# Altium schematic symbol library CAP - Surface Mount Ceramic Capacitors 0603.SchLib: 20 symbols
Pins are listed as number, name and electrical type; pins without a type are passive.

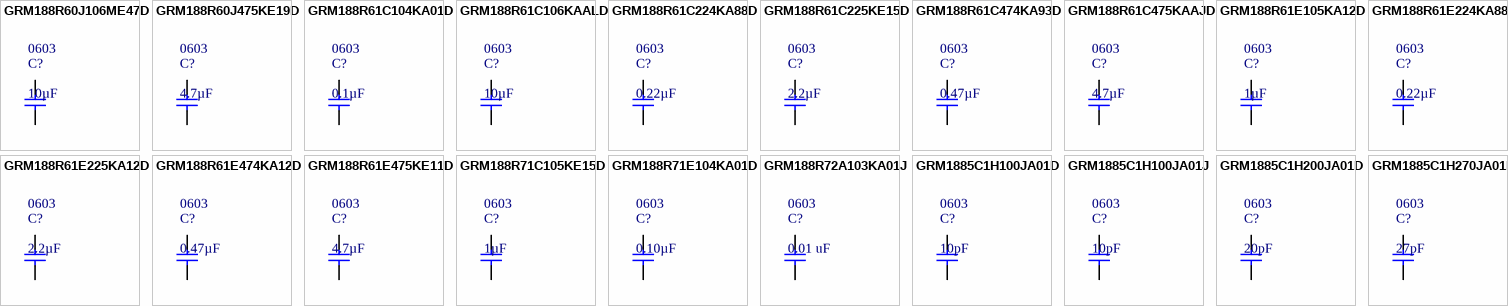
[diagram p0: symbols GRM188R60J106ME47D to GRM1885C1H270JA01D]

## GRM188R60J106ME47D
designator C?, comment 10µF  Package: 0603
CAP CER 10UF 6.3V X5R 0603; Manufacturer: Murata Electronics North America; Manufacturer Part Number: GRM188R60J106ME47D; Tolerance: ±20%; Supplier 1: Digi-Key; Supplier Part Number 1: 490-3896-1-ND; RoHS: RoHS Compliant; Category: Capacitors; Stock 1: 1718576; Pricing 1: 1=0.15, 10=0.105, 50=0.0604, 100=0.0499, 250=0.042, 500=0.03518, 1000=0.02888 (USD); Packaging: Cut Tape (CT); Part Status: Active; Capacitance: 10µF; Voltage - Rated: 6.3V; Temperature Coefficient: X5R; Operating Temperature: -55°C ~ 85°C; Features: -; Ratings: -; Applications: General Purpose; Mounting Type: Surface Mount, MLCC; Size / Dimension: 0.063" L x 0.031" W (1.60mm x 0.80mm); Height - Seated (Max): -; Thickness (Max): 0.035" (0.90mm); Lead Spacing: -; Lead Style: -; ComponentLink1URL: http://www.murata.com/~/media/webrenewal/support/library/catalog/products/capacitor/mlcc/c02e.pdf; ComponentLink1Description: http://www.murata.com/~/media/webrenewal/support/library/catalog/products/capacitor/mlcc/c02e.pdf
footprint C 0603 (Chip Capacitor, 2-Leads, Body 1.6x0.8mm, IPC Medium Density)
pins: 1, 2

## GRM188R60J475KE19D
designator C?, comment 4.7µF  Package: 0603
CAP CER 4.7UF 6.3V X5R 0603; Manufacturer: Murata Electronics North America; Manufacturer Part Number: GRM188R60J475KE19D; Tolerance: ±10%; Supplier 1: Digi-Key; Supplier Part Number 1: 490-3297-1-ND; RoHS: RoHS Compliant; Category: Capacitors; Stock 1: 611486; Pricing 1: 1=0.11, 10=0.078, 50=0.0422, 100=0.0358, 250=0.02924, 500=0.02502, 1000=0.0195 (USD); Packaging: Cut Tape (CT); Part Status: Active; Capacitance: 4.7µF; Voltage - Rated: 6.3V; Temperature Coefficient: X5R; Operating Temperature: -55°C ~ 85°C; Features: -; Ratings: -; Applications: General Purpose; Mounting Type: Surface Mount, MLCC; Size / Dimension: 0.063" L x 0.031" W (1.60mm x 0.80mm); Height - Seated (Max): -; Thickness (Max): 0.035" (0.90mm); Lead Spacing: -; Lead Style: -; ComponentLink1URL: http://www.murata.com/~/media/webrenewal/support/library/catalog/products/capacitor/mlcc/c02e.pdf; ComponentLink1Description: http://www.murata.com/~/media/webrenewal/support/library/catalog/products/capacitor/mlcc/c02e.pdf
footprint C 0603 (Chip Capacitor, 2-Leads, Body 1.6x0.8mm, IPC Medium Density)
pins: 1, 2

## GRM188R61C104KA01D
designator C?, comment 0.1µF  Package: 0603
CAP CER 0.1UF 16V X5R 0603; Manufacturer: Murata Electronics North America; Manufacturer Part Number: GRM188R61C104KA01D; Tolerance: ±10%; Supplier 1: Digi-Key; Supplier Part Number 1: 490-9653-1-ND; RoHS: RoHS Compliant; Category: Capacitors; Stock 1: 310560; Pricing 1: 1=0.1, 10=0.048, 25=0.0348, 50=0.026, 100=0.0213, 250=0.01784, 500=0.01522, 1000=0.01195 (USD); Packaging: Cut Tape (CT); Part Status: Active; Capacitance: 0.1µF; Voltage - Rated: 16V; Temperature Coefficient: X5R; Operating Temperature: -55°C ~ 85°C; Features: -; Ratings: -; Applications: General Purpose; Mounting Type: Surface Mount, MLCC; Size / Dimension: 0.063" L x 0.031" W (1.60mm x 0.80mm); Height - Seated (Max): -; Thickness (Max): 0.035" (0.90mm); Lead Spacing: -; Lead Style: -; ComponentLink1URL: http://www.murata.com/~/media/webrenewal/support/library/catalog/products/capacitor/mlcc/c02e.ashx; ComponentLink1Description: http://www.murata.com/~/media/webrenewal/support/library/catalog/products/capacitor/mlcc/c02e.ashx
footprint C 0603 (Chip Capacitor, 2-Leads, Body 1.6x0.8mm, IPC Medium Density)
pins: 1, 2

## GRM188R61C106KAALD
designator C?, comment 10µF  Package: 0603
CAP CER 10UF 16V X5R 0603; Manufacturer: Murata Electronics North America; Manufacturer Part Number: GRM188R61C106KAALD; Tolerance: ±10%; Supplier 1: Digi-Key; Supplier Part Number 1: 490-10728-1-ND; RoHS: RoHS Compliant; Category: Capacitors; Stock 1: 110990; Pricing 1: 1=0.37, 10=0.254, 25=0.208, 50=0.1776, 100=0.1521, 250=0.1268, 500=0.1141, 1000=0.09636 (USD); Packaging: Cut Tape (CT); Part Status: Active; Capacitance: 10µF; Voltage - Rated: 16V; Temperature Coefficient: X5R; Operating Temperature: -55°C ~ 85°C; Features: -; Ratings: -; Applications: General Purpose; Mounting Type: Surface Mount, MLCC; Size / Dimension: 0.063" L x 0.031" W (1.60mm x 0.80mm); Height - Seated (Max): -; Thickness (Max): 0.037" (0.95mm); Lead Spacing: -; Lead Style: -; ComponentLink1URL: http://www.murata.com/~/media/webrenewal/support/library/catalog/products/capacitor/mlcc/c02e.ashx; ComponentLink1Description: http://www.murata.com/~/media/webrenewal/support/library/catalog/products/capacitor/mlcc/c02e.ashx
footprint C 0603 (Chip Capacitor, 2-Leads, Body 1.6x0.8mm, IPC Medium Density)
pins: 1, 2

## GRM188R61C224KA88D
designator C?, comment 0.22µF  Package: 0603
CAP CER 0.22UF 16V X5R 0603; Manufacturer: Murata Electronics North America; Manufacturer Part Number: GRM188R61C224KA88D; Tolerance: ±10%; Supplier 1: Digi-Key; Supplier Part Number 1: 490-11500-1-ND; RoHS: RoHS Compliant; Category: Capacitors; Stock 1: 538; Pricing 1: 1=0.18, 10=0.126, 25=0.0924, 50=0.0756, 100=0.0638, 250=0.05204, 500=0.04366, 1000=0.03862 (USD); Packaging: Cut Tape (CT); Part Status: Active; Capacitance: 0.22µF; Voltage - Rated: 16V; Temperature Coefficient: X5R; Operating Temperature: -55°C ~ 85°C; Features: -; Ratings: -; Applications: General Purpose; Mounting Type: Surface Mount, MLCC; Size / Dimension: 0.063" L x 0.031" W (1.60mm x 0.80mm); Height - Seated (Max): -; Thickness (Max): 0.035" (0.90mm); Lead Spacing: -; Lead Style: -; ComponentLink1URL: http://www.murata.com/~/media/webrenewal/support/library/catalog/products/capacitor/mlcc/c02e.ashx; ComponentLink1Description: http://www.murata.com/~/media/webrenewal/support/library/catalog/products/capacitor/mlcc/c02e.ashx
footprint C 0603 (Chip Capacitor, 2-Leads, Body 1.6x0.8mm, IPC Medium Density)
pins: 1, 2

## GRM188R61C225KE15D
designator C?, comment 2.2µF  Package: 0603
CAP CER 2.2UF 16V X5R 0603; Manufacturer: Murata Electronics North America; Manufacturer Part Number: GRM188R61C225KE15D; Tolerance: ±10%; Supplier 1: Digi-Key; Supplier Part Number 1: 490-3296-1-ND; RoHS: RoHS Compliant; Category: Capacitors; Stock 1: 1546354; Pricing 1: 1=0.13, 10=0.089, 25=0.0652, 50=0.0508, 100=0.042, 250=0.03476, 500=0.02946, 1000=0.02439 (USD); Packaging: Cut Tape (CT); Part Status: Active; Capacitance: 2.2µF; Voltage - Rated: 16V; Temperature Coefficient: X5R; Operating Temperature: -55°C ~ 85°C; Features: -; Ratings: -; Applications: General Purpose; Mounting Type: Surface Mount, MLCC; Size / Dimension: 0.063" L x 0.031" W (1.60mm x 0.80mm); Height - Seated (Max): -; Thickness (Max): 0.035" (0.90mm); Lead Spacing: -; Lead Style: -; ComponentLink1URL: http://www.murata.com/~/media/webrenewal/support/library/catalog/products/capacitor/mlcc/c02e.ashx; ComponentLink1Description: http://www.murata.com/~/media/webrenewal/support/library/catalog/products/capacitor/mlcc/c02e.ashx
footprint C 0603 (Chip Capacitor, 2-Leads, Body 1.6x0.8mm, IPC Medium Density)
pins: 1, 2

## GRM188R61C474KA93D
designator C?, comment 0.47µF  Package: 0603
CAP CER 0.47UF 16V X5R 0603; Manufacturer: Murata Electronics North America; Manufacturer Part Number: GRM188R61C474KA93D; Tolerance: ±10%; Supplier 1: Digi-Key; Supplier Part Number 1: 490-11501-1-ND; RoHS: RoHS Compliant; Category: Capacitors; Stock 1: 6697; Pricing 1: 1=0.19, 10=0.131, 25=0.0964, 50=0.0788, 100=0.0666, 250=0.05428, 500=0.04554, 1000=0.04028 (USD); Packaging: Cut Tape (CT); Part Status: Active; Capacitance: 0.47µF; Voltage - Rated: 16V; Temperature Coefficient: X5R; Operating Temperature: -55°C ~ 85°C; Features: -; Ratings: -; Applications: General Purpose; Mounting Type: Surface Mount, MLCC; Size / Dimension: 0.063" L x 0.031" W (1.60mm x 0.80mm); Height - Seated (Max): -; Thickness (Max): 0.035" (0.90mm); Lead Spacing: -; Lead Style: -; ComponentLink1URL: http://www.murata.com/~/media/webrenewal/support/library/catalog/products/capacitor/mlcc/c02e.ashx; ComponentLink1Description: http://www.murata.com/~/media/webrenewal/support/library/catalog/products/capacitor/mlcc/c02e.ashx
footprint C 0603 (Chip Capacitor, 2-Leads, Body 1.6x0.8mm, IPC Medium Density)
pins: 1, 2

## GRM188R61C475KAAJD
designator C?, comment 4.7µF  Package: 0603
CAP CER 4.7UF 16V X5R 0603; Manufacturer: Murata Electronics North America; Manufacturer Part Number: GRM188R61C475KAAJD; Tolerance: ±10%; Supplier 1: Digi-Key; Supplier Part Number 1: 490-10481-1-ND; RoHS: RoHS Compliant; Category: Capacitors; Stock 1: 167381; Pricing 1: 1=0.33, 10=0.227, 25=0.182, 50=0.1516, 100=0.1289, 250=0.10236, 500=0.091, 1000=0.07962 (USD); Packaging: Cut Tape (CT); Part Status: Active; Capacitance: 4.7µF; Voltage - Rated: 16V; Temperature Coefficient: X5R; Operating Temperature: -55°C ~ 85°C; Features: Derating Recommended; Ratings: -; Applications: General Purpose; Mounting Type: Surface Mount, MLCC; Size / Dimension: 0.063" L x 0.031" W (1.60mm x 0.80mm); Height - Seated (Max): -; Thickness (Max): 0.037" (0.95mm); Lead Spacing: -; Lead Style: -; ComponentLink1URL: http://www.murata.com/~/media/webrenewal/support/library/catalog/products/capacitor/mlcc/c02e.ashx; ComponentLink1Description: http://www.murata.com/~/media/webrenewal/support/library/catalog/products/capacitor/mlcc/c02e.ashx
footprint C 0603 (Chip Capacitor, 2-Leads, Body 1.6x0.8mm, IPC Medium Density)
pins: 1, 2

## GRM188R61E105KA12D
designator C?, comment 1µF  Package: 0603
CAP CER 1UF 25V X5R 0603; Manufacturer: Murata Electronics North America; Manufacturer Part Number: GRM188R61E105KA12D; Tolerance: ±10%; Supplier 1: Digi-Key; Supplier Part Number 1: 490-3897-1-ND; RoHS: RoHS Compliant; Category: Capacitors; Stock 1: 3125603; Pricing 1: 1=0.1, 10=0.04, 25=0.0288, 50=0.0218, 100=0.0178, 250=0.01484, 500=0.01268, 1000=0.00996 (USD); Packaging: Cut Tape (CT); Part Status: Active; Capacitance: 1µF; Voltage - Rated: 25V; Temperature Coefficient: X5R; Operating Temperature: -55°C ~ 85°C; Features: -; Ratings: -; Applications: General Purpose; Mounting Type: Surface Mount, MLCC; Size / Dimension: 0.063" L x 0.031" W (1.60mm x 0.80mm); Height - Seated (Max): -; Thickness (Max): 0.035" (0.90mm); Lead Spacing: -; Lead Style: -; ComponentLink1URL: http://www.murata.com/~/media/webrenewal/support/library/catalog/products/capacitor/mlcc/c02e.ashx; ComponentLink1Description: http://www.murata.com/~/media/webrenewal/support/library/catalog/products/capacitor/mlcc/c02e.ashx
footprint C 0603 (Chip Capacitor, 2-Leads, Body 1.6x0.8mm, IPC Medium Density)
pins: 1, 2

## GRM188R61E224KA88D
designator C?, comment 0.22µF  Package: 0603
CAP CER 0.22UF 25V X5R 0603; Manufacturer: Murata Electronics North America; Manufacturer Part Number: GRM188R61E224KA88D; Tolerance: ±10%; Supplier 1: Digi-Key; Supplier Part Number 1: 490-11502-1-ND; RoHS: RoHS Compliant; Category: Capacitors; Stock 1: 3706; Pricing 1: 1=0.18, 10=0.126, 25=0.0924, 50=0.0756, 100=0.0638, 250=0.05204, 500=0.04366, 1000=0.03862 (USD); Packaging: Cut Tape (CT); Part Status: Active; Capacitance: 0.22µF; Voltage - Rated: 25V; Temperature Coefficient: X5R; Operating Temperature: -55°C ~ 85°C; Features: -; Ratings: -; Applications: General Purpose; Mounting Type: Surface Mount, MLCC; Size / Dimension: 0.063" L x 0.031" W (1.60mm x 0.80mm); Height - Seated (Max): -; Thickness (Max): 0.035" (0.90mm); Lead Spacing: -; Lead Style: -; ComponentLink1URL: http://www.murata.com/~/media/webrenewal/support/library/catalog/products/capacitor/mlcc/c02e.ashx; ComponentLink1Description: http://www.murata.com/~/media/webrenewal/support/library/catalog/products/capacitor/mlcc/c02e.ashx
footprint C 0603 (Chip Capacitor, 2-Leads, Body 1.6x0.8mm, IPC Medium Density)
pins: 1, 2

## GRM188R61E225KA12D
designator C?, comment 2.2µF  Package: 0603
CAP CER 2.2UF 25V X5R 0603; Manufacturer: Murata Electronics North America; Manufacturer Part Number: GRM188R61E225KA12D; Tolerance: ±10%; Supplier 1: Digi-Key; Supplier Part Number 1: 490-10731-1-ND; RoHS: RoHS Compliant; Category: Capacitors; Stock 1: 174226; Pricing 1: 1=0.15, 10=0.109, 25=0.08, 50=0.0622, 100=0.0515, 250=0.0426, 500=0.0361, 1000=0.02988 (USD); Packaging: Cut Tape (CT); Part Status: Active; Capacitance: 2.2µF; Voltage - Rated: 25V; Temperature Coefficient: X5R; Operating Temperature: -55°C ~ 85°C; Features: -; Ratings: -; Applications: General Purpose; Mounting Type: Surface Mount, MLCC; Size / Dimension: 0.063" L x 0.031" W (1.60mm x 0.80mm); Height - Seated (Max): -; Thickness (Max): 0.035" (0.90mm); Lead Spacing: -; Lead Style: -; ComponentLink1URL: http://www.murata.com/~/media/webrenewal/support/library/catalog/products/capacitor/mlcc/c02e.ashx; ComponentLink1Description: http://www.murata.com/~/media/webrenewal/support/library/catalog/products/capacitor/mlcc/c02e.ashx
footprint C 0603 (Chip Capacitor, 2-Leads, Body 1.6x0.8mm, IPC Medium Density)
pins: 1, 2

## GRM188R61E474KA12D
designator C?, comment 0.47µF  Package: 0603
CAP CER 0.47UF 25V X5R 0603; Manufacturer: Murata Electronics North America; Manufacturer Part Number: GRM188R61E474KA12D; Tolerance: ±10%; Supplier 1: Digi-Key; Supplier Part Number 1: 490-9728-1-ND; RoHS: RoHS Compliant; Category: Capacitors; Stock 1: 6941; Pricing 1: 1=0.22, 10=0.147, 25=0.1076, 50=0.088, 100=0.0743, 250=0.06064, 500=0.05086, 1000=0.04499 (USD); Packaging: Cut Tape (CT); Part Status: Active; Capacitance: 0.47µF; Voltage - Rated: 25V; Temperature Coefficient: X5R; Operating Temperature: -55°C ~ 85°C; Features: -; Ratings: -; Applications: General Purpose; Mounting Type: Surface Mount, MLCC; Size / Dimension: 0.063" L x 0.031" W (1.60mm x 0.80mm); Height - Seated (Max): -; Thickness (Max): 0.035" (0.90mm); Lead Spacing: -; Lead Style: -; ComponentLink1URL: http://www.murata.com/~/media/webrenewal/support/library/catalog/products/capacitor/mlcc/c02e.ashx; ComponentLink1Description: http://www.murata.com/~/media/webrenewal/support/library/catalog/products/capacitor/mlcc/c02e.ashx
footprint C 0603 (Chip Capacitor, 2-Leads, Body 1.6x0.8mm, IPC Medium Density)
pins: 1, 2

## GRM188R61E475KE11D
designator C?, comment 4.7µF  Package: 0603
CAP CER 4.7UF 25V X5R 0603; Manufacturer: Murata Electronics North America; Manufacturer Part Number: GRM188R61E475KE11D; Tolerance: ±10%; Supplier 1: Digi-Key; Supplier Part Number 1: 490-7203-1-ND; RoHS: RoHS Compliant; Category: Capacitors; Stock 1: 3914; Pricing 1: 1=0.35, 10=0.242, 25=0.198, 50=0.169, 100=0.1449, 250=0.12076, 500=0.10868, 1000=0.09177 (USD); Packaging: Cut Tape (CT); Part Status: Active; Capacitance: 4.7µF; Voltage - Rated: 25V; Temperature Coefficient: X5R; Operating Temperature: -55°C ~ 85°C; Features: -; Ratings: -; Applications: General Purpose; Mounting Type: Surface Mount, MLCC; Size / Dimension: 0.063" L x 0.031" W (1.60mm x 0.80mm); Height - Seated (Max): -; Thickness (Max): 0.031" (0.80mm); Lead Spacing: -; Lead Style: -; ComponentLink1URL: http://www.murata.com/~/media/webrenewal/support/library/catalog/products/capacitor/mlcc/c02e.ashx; ComponentLink1Description: http://www.murata.com/~/media/webrenewal/support/library/catalog/products/capacitor/mlcc/c02e.ashx
footprint C 0603 (Chip Capacitor, 2-Leads, Body 1.6x0.8mm, IPC Medium Density)
pins: 1, 2

## GRM188R71C105KE15D
designator C?, comment 1µF  Package: 0603
CAP CER 1UF 16V X7R 0603; Manufacturer: Murata Electronics North America; Manufacturer Part Number: GRM188R71C105KE15D; Tolerance: ±10%; Supplier 1: Digi-Key; Supplier Part Number 1: 490-10734-1-ND; RoHS: RoHS Compliant; Category: Capacitors; Stock 1: 149197; Pricing 1: 1=0.1, 10=0.034, 50=0.0182, 100=0.0154, 250=0.0126, 500=0.01078, 1000=0.0084 (USD); Packaging: Cut Tape (CT); Part Status: Active; Capacitance: 1µF; Voltage - Rated: 16V; Temperature Coefficient: X7R; Operating Temperature: -55°C ~ 125°C; Features: -; Ratings: -; Applications: General Purpose; Mounting Type: Surface Mount, MLCC; Size / Dimension: 0.063" L x 0.031" W (1.60mm x 0.80mm); Height - Seated (Max): -; Thickness (Max): 0.035" (0.90mm); Lead Spacing: -; Lead Style: -; ComponentLink1URL: http://www.murata.com/~/media/webrenewal/support/library/catalog/products/capacitor/mlcc/c02e.pdf; ComponentLink1Description: http://www.murata.com/~/media/webrenewal/support/library/catalog/products/capacitor/mlcc/c02e.pdf
footprint C 0603 (Chip Capacitor, 2-Leads, Body 1.6x0.8mm, IPC Medium Density)
pins: 1, 2

## GRM188R71E104KA01D
designator C?, comment 0.10µF  Package: 0603
CAP CER 0.1UF 25V X7R 0603; Manufacturer: Murata Electronics North America; Manufacturer Part Number: GRM188R71E104KA01D; Tolerance: ±10%; Supplier 1: Digi-Key; Supplier Part Number 1: 490-1524-1-ND; RoHS: RoHS Compliant; Category: Capacitors; Stock 1: 6118372; Pricing 1: 1=0.1, 10=0.019, 50=0.0104, 100=0.0088, 250=0.0072, 500=0.00616, 1000=0.0048 (USD); Packaging: Cut Tape (CT); Part Status: Active; Capacitance: 0.10µF; Voltage - Rated: 25V; Temperature Coefficient: X7R; Operating Temperature: -55°C ~ 125°C; Features: -; Ratings: -; Applications: General Purpose; Mounting Type: Surface Mount, MLCC; Size / Dimension: 0.063" L x 0.031" W (1.60mm x 0.80mm); Height - Seated (Max): -; Thickness (Max): 0.035" (0.90mm); Lead Spacing: -; Lead Style: -; ComponentLink1URL: http://www.murata.com/~/media/webrenewal/support/library/catalog/products/capacitor/mlcc/c02e.pdf; ComponentLink1Description: http://www.murata.com/~/media/webrenewal/support/library/catalog/products/capacitor/mlcc/c02e.pdf
footprint C 0603 (Chip Capacitor, 2-Leads, Body 1.6x0.8mm, IPC Medium Density)
pins: 1, 2

## GRM188R72A103KA01J
designator C?, comment 0.01 uF  Package: 0603
CAP CER 0.01UF 16V X5R 0603; Manufacturer: Murata Electronics North America; Manufacturer Part Number: GRM188R72A103KA01J; Tolerance: ±10%; Voltage - Rated: 100; Supplier 1: Digi-Key; Supplier Part Number 1: 490-12000-1-ND; RoHS: RoHS Compliant; Category: Capacitors; Stock 1: 2455; Pricing 1: 1=0.110, 10=0.090, 100=0.039, 500=0.028, 1000=0.022, 2500=0.020, 5000=0.019, 10000=0.015, 20000=0.013 (USD); Capacitance: 0.01 uF; Packaging: Cut Tape (CT); ComponentLink1URL: http://www.murata.com/~/media/webrenewal/support/library/catalog/products/capacitor/mlcc/c02e.ashx; ComponentLink1Description: http://www.murata.com/~/media/webrenewal/support/library/catalog/products/capacitor/mlcc/c02e.ashx; Applications: General Purpose; Features: -; Height - Seated (Max): -; Lead Spacing: -; Lead Style: -; Mounting Type: Surface Mount, MLCC; Operating Temperature: -55°C ~ 125°C; Part Status: Active; Ratings: -; Size / Dimension: 0.063" L x 0.031" W (1.60mm x 0.80mm); Temperature Coefficient: X5R; Thickness (Max): 0.031" (0.80mm)
footprint C 0603
pins: 1, 2

## GRM1885C1H100JA01D
designator C?, comment 10pF  Package: 0603
CAP CER 10PF 50V C0G/NP0 0603; Manufacturer: Murata Electronics North America; Manufacturer Part Number: GRM1885C1H100JA01D; Tolerance: ±5%; Temperature Coefficient: C0G, NP0; Supplier 1: Digi-Key; Supplier Part Number 1: 490-1403-1-ND; RoHS: RoHS Compliant; Category: Capacitors; Stock 1: 369990; Pricing 1: 1=0.1, 10=0.071, 100=0.0316, 500=0.0226, 1000=0.01776 (USD); Packaging: Cut Tape (CT); Part Status: Active; Voltage - Rated: 50V; Operating Temperature: -55°C ~ 125°C; Features: -; Ratings: -; Applications: General Purpose; Mounting Type: Surface Mount, MLCC; Size / Dimension: 0.063" L x 0.031" W (1.60mm x 0.80mm); Height - Seated (Max): -; Thickness (Max): 0.035" (0.90mm); Lead Spacing: -; Lead Style: -; ComponentLink1URL: http://www.murata.com/~/media/webrenewal/support/library/catalog/products/capacitor/mlcc/c02e.ashx; ComponentLink1Description: http://www.murata.com/~/media/webrenewal/support/library/catalog/products/capacitor/mlcc/c02e.ashx; Capacitance: 10pF
footprint C 0603 (Chip Capacitor, 2-Leads, Body 1.6x0.8mm, IPC Medium Density)
pins: 1, 2

## GRM1885C1H100JA01J
designator C?, comment 10pF  Package: 0603
CAP CER 10PF 50V C0G/NP0 0603; Manufacturer: Murata Electronics North America; Manufacturer Part Number: GRM1885C1H100JA01J; Tolerance: ±5%; Temperature Coefficient: C0G, NP0; Supplier 1: Digi-Key; Supplier Part Number 1: 490-11434-1-ND; RoHS: RoHS Compliant; Category: Capacitors; Stock 1: 39522; Pricing 1: 1=0.1, 10=0.071, 100=0.0316, 500=0.0226, 1000=0.01776, 2500=0.01614, 5000=0.01485 (USD); Packaging: Cut Tape (CT); Part Status: Active; Voltage - Rated: 50V; Operating Temperature: -55°C ~ 125°C; Features: -; Ratings: -; Applications: General Purpose; Mounting Type: Surface Mount, MLCC; Size / Dimension: 0.063" L x 0.031" W (1.60mm x 0.80mm); Height - Seated (Max): -; Thickness (Max): 0.035" (0.90mm); Lead Spacing: -; Lead Style: -; ComponentLink1URL: http://www.murata.com/~/media/webrenewal/support/library/catalog/products/capacitor/mlcc/c02e.ashx; ComponentLink1Description: http://www.murata.com/~/media/webrenewal/support/library/catalog/products/capacitor/mlcc/c02e.ashx; Capacitance: 10pF
footprint C 0603 (Chip Capacitor, 2-Leads, Body 1.6x0.8mm, IPC Medium Density)
pins: 1, 2

## GRM1885C1H200JA01D
designator C?, comment 20pF  Package: 0603
CAP CER 27PF 50V NP0 0603; Manufacturer: Murata Electronics North America; Manufacturer Part Number: GRM1885C1H200JA01D; Tolerance: ±5%; Temperature Coefficient: C0G, NP0; Supplier 1: Digi-Key; Supplier Part Number 1: 490-1410-2-ND; RoHS: RoHS Compliant; Category: Capacitors; Stock 1: 161874; Pricing 1: 1=0.1, 10=0.061, 50=0.0332, 100=0.0281, 250=0.02296, 500=0.01964, 1000=0.0153 (USD); Packaging: Cut Tape (CT); Part Status: Active; Capacitance: 20pF; Voltage - Rated: 50V; Operating Temperature: -55°C ~ 125°C; Features: -; Ratings: -; Applications: General Purpose; Mounting Type: Surface Mount, MLCC; Size / Dimension: 0.063" L x 0.031" W (1.60mm x 0.80mm); Height - Seated (Max): -; Thickness (Max): 0.035" (0.90mm); Lead Spacing: -; Lead Style: -; ComponentLink1URL: http://www.murata.com/~/media/webrenewal/support/library/catalog/products/capacitor/mlcc/c02e.pdf; ComponentLink1Description: http://www.murata.com/~/media/webrenewal/support/library/catalog/products/capacitor/mlcc/c02e.pdf
footprint C 0603 (Chip Capacitor, 2-Leads, Body 1.6x0.8mm, IPC Medium Density)
pins: 1, 2

## GRM1885C1H270JA01D
designator C?, comment 27pF  Package: 0603
CAP CER 27PF 50V NP0 0603; Manufacturer: Murata Electronics North America; Manufacturer Part Number: GRM1885C1H270JA01D; Tolerance: ±5%; Temperature Coefficient: C0G, NP0; Supplier 1: Digi-Key; Supplier Part Number 1: 490-1413-1-ND; RoHS: RoHS Compliant; Category: Capacitors; Stock 1: 161874; Pricing 1: 1=0.1, 10=0.061, 50=0.0332, 100=0.0281, 250=0.02296, 500=0.01964, 1000=0.0153 (USD); Packaging: Cut Tape (CT); Part Status: Active; Capacitance: 27pF; Voltage - Rated: 50V; Operating Temperature: -55°C ~ 125°C; Features: -; Ratings: -; Applications: General Purpose; Mounting Type: Surface Mount, MLCC; Size / Dimension: 0.063" L x 0.031" W (1.60mm x 0.80mm); Height - Seated (Max): -; Thickness (Max): 0.035" (0.90mm); Lead Spacing: -; Lead Style: -; ComponentLink1URL: http://www.murata.com/~/media/webrenewal/support/library/catalog/products/capacitor/mlcc/c02e.pdf; ComponentLink1Description: http://www.murata.com/~/media/webrenewal/support/library/catalog/products/capacitor/mlcc/c02e.pdf
footprint C 0603 (Chip Capacitor, 2-Leads, Body 1.6x0.8mm, IPC Medium Density)
pins: 1, 2